# Altium schematic symbol library TS04-66-50-BK-160-SMT.SchLib: 1 symbol
Pins are listed as number, name and electrical type; pins without a type are passive.

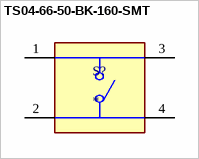
[diagram p0: symbol TS04-66-50-BK-160-SMT]

## TS04-66-50-BK-160-SMT
designator S?
6 x 6 mm, 5 mm Actuator Height, 160 gf, Black, Surface Mount, SPST, Tactile Switch; MF: Same Sky; MP: TS04-66-50-BK-160-SMT; SnapEDA_Link: https://www.snapeda.com/parts/TS04-66-50-BK-160-SMT/Same+Sky/view-part/?ref=snap; Package: None; Value: *; Check_prices: https://www.snapeda.com/parts/TS04-66-50-BK-160-SMT/Same+Sky/view-part/?ref=eda
footprint SW_TS04-66-50-BK-160-SMT
pins: 1, 2, 3, 4